# Altium footprint library as14120.PcbLib: 33 footprints (part 1 of 3)
Each footprint in its own frame and in the unit in brackets; x right, y up, seen from the top. Pads: shape width x height; smd on the part's side, far side on the other; paste and mask are expansions set on the pad; w line width, h text height; cw(c..) or ccw(c..) is an arc to the next point about the centre after c.
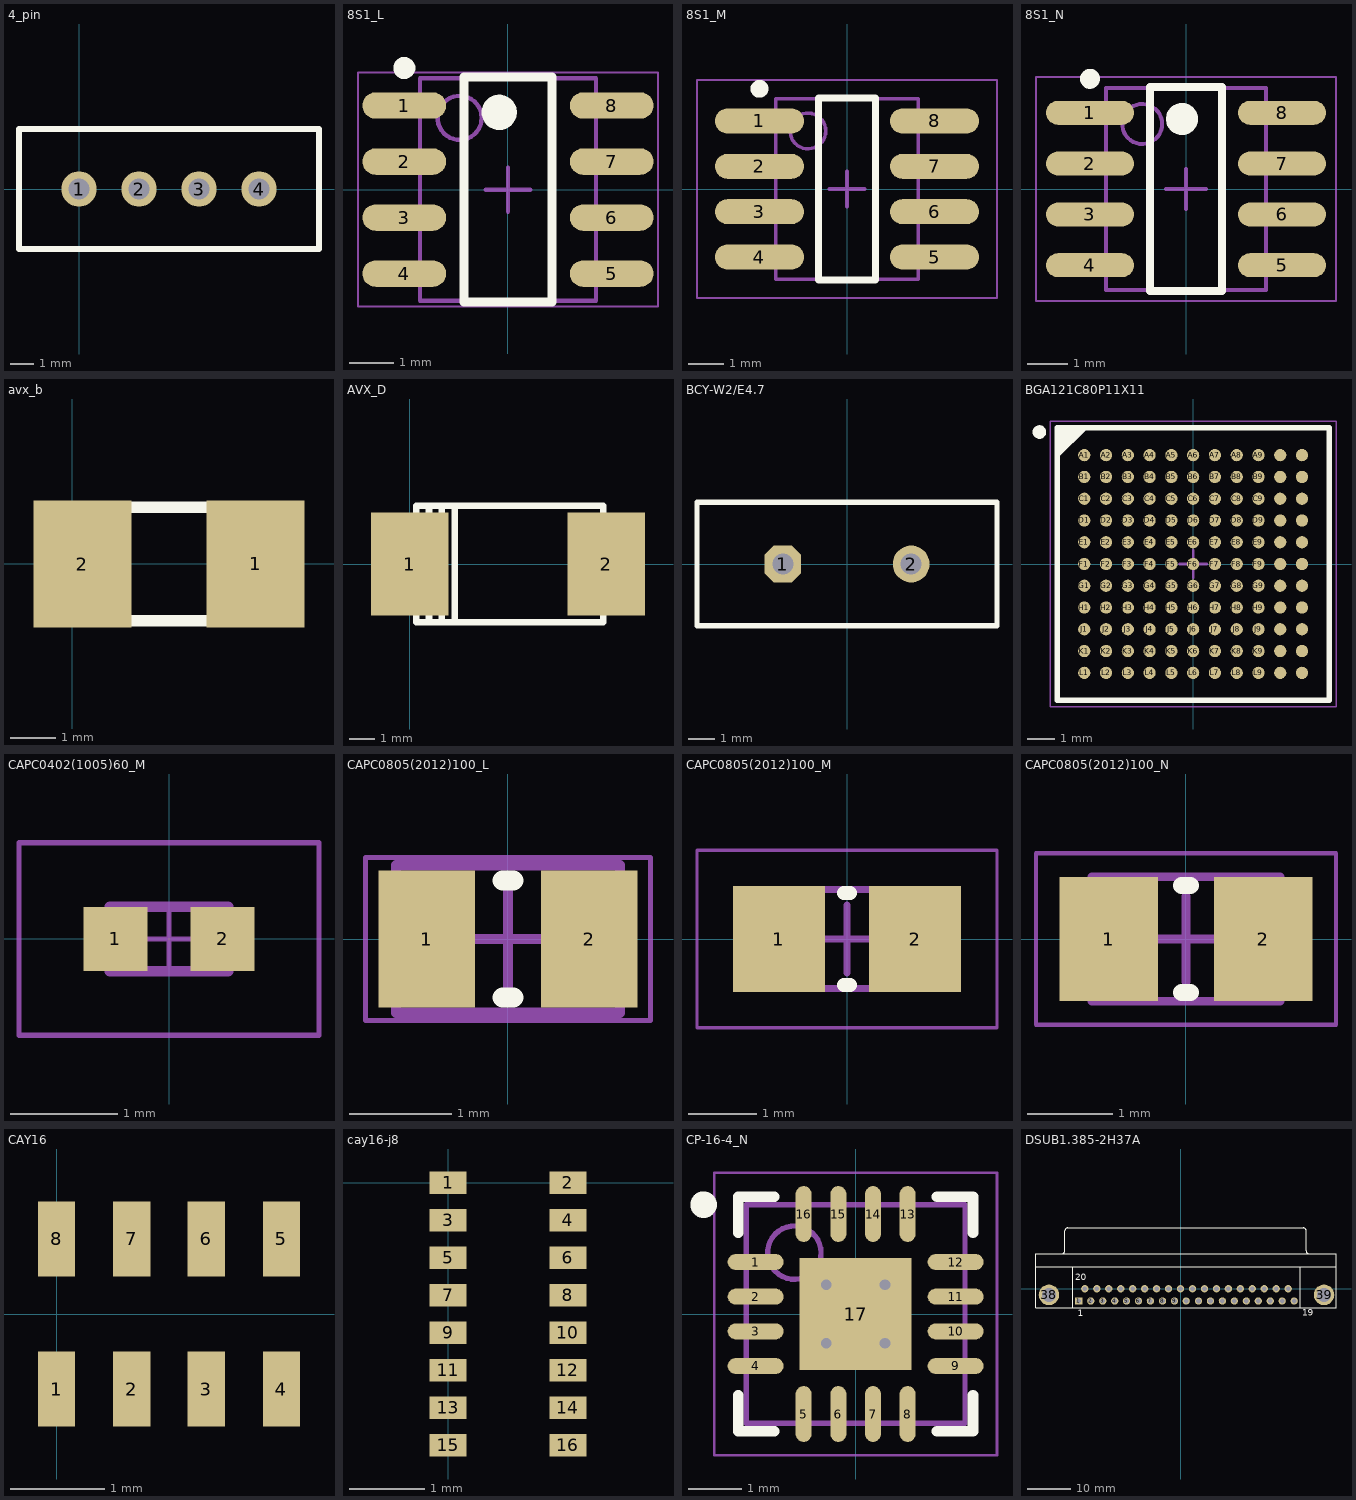
[diagram p0: the footprints below, top view; thin cyan lines are the x and y axes]

## 4_pin [mm]
height 10
pads (4):
  round 1.5 hole 0.9: 1(0,0) 2(2.54,0) 3(5.08,0) 4(7.62,0)
Top Overlay:
  lines w0.254: -2.54,-2.54 10.16,-2.54 10.16,2.54 -2.54,2.54 -2.54,-2.54

## 8S1_L [mm] "SOIC, 8-Leads, Body 4.9x3.9mm, Pitch 1.27mm, IPC High Density"
height 1.75
pads (8):
  oval 1.9x0.6 smd: 1(-2.35,1.905) 2(-2.35,0.635) 3(-2.35,-0.635) 4(-2.35,-1.905) 5(2.35,-1.905) 6(2.35,-0.635) 7(2.35,0.635) 8(2.35,1.905)
Top Overlay:
  circle w0.25: c-2.35,2.755 r0.125
  circle w0.4: c-0.2,1.75 r0.2
  lines w0.2: -1,-2.55 -1,2.55 1,2.55 1,-2.55 -1,-2.55
Mechanical 13:
  circle w0.1: c-1.095,1.625 r0.5
  lines w0.1: -1.995,-2.525 -1.995,2.525 1.995,2.525 1.995,-2.525 -1.995,-2.525
Mechanical 15:
  lines w0.05: -3.4,-2.65 -3.4,2.65 3.4,2.65 3.4,-2.65 -3.4,-2.65
  lines w0.1: -0.5,0 0.5,0 ; 0,-0.5 0,0.5
3D body: height 1.75, standoff 0.1, extent -1.995,-2.525 1.995,2.525

## 8S1_M [mm] "SOIC, 8-Leads, Body 4.9x3.9mm, Pitch 1.27mm, IPC Low Density"
height 1.75
pads (8):
  oval 2.5x0.7 smd: 1(-2.45,1.905) 2(-2.45,0.635) 3(-2.45,-0.635) 4(-2.45,-1.905) 5(2.45,-1.905) 6(2.45,-0.635) 7(2.45,0.635) 8(2.45,1.905)
Top Overlay:
  circle w0.25: c-2.45,2.805 r0.125
  lines w0.2: -0.8,-2.55 -0.8,2.55 0.8,2.55 0.8,-2.55 -0.8,-2.55
Mechanical 13:
  circle w0.1: c-1.095,1.625 r0.5
  lines w0.1: -1.995,-2.525 -1.995,2.525 1.995,2.525 1.995,-2.525 -1.995,-2.525
Mechanical 15:
  lines w0.05: -4.2,-3.05 -4.2,3.05 4.2,3.05 4.2,-3.05 -4.2,-3.05
  lines w0.1: -0.5,0 0.5,0 ; 0,-0.5 0,0.5
3D body: height 1.75, standoff 0.1, extent -1.995,-2.525 1.995,2.525

## 8S1_N [mm] "SOIC, 8-Leads, Body 4.9x3.9mm, Pitch 1.27mm, IPC Medium Density"
height 1.75
pads (8):
  oval 2.2x0.6 smd: 1(-2.4,1.905) 2(-2.4,0.635) 3(-2.4,-0.635) 4(-2.4,-1.905) 5(2.4,-1.905) 6(2.4,-0.635) 7(2.4,0.635) 8(2.4,1.905)
Top Overlay:
  circle w0.4: c-0.1,1.75 r0.2
  circle w0.25: c-2.4,2.755 r0.125
  lines w0.2: -0.9,-2.55 0.9,-2.55 0.9,2.55 -0.9,2.55 -0.9,-2.55
Mechanical 13:
  circle w0.1: c-1.095,1.625 r0.5
  lines w0.1: -1.995,-2.525 1.995,-2.525 1.995,2.525 -1.995,2.525 -1.995,-2.525
Mechanical 15:
  lines w0.05: -3.75,-2.8 3.75,-2.8 3.75,2.8 -3.75,2.8 -3.75,-2.8
  lines w0.1: -0.5,0 0.5,0 ; 0,-0.5 0,0.5
3D body: height 1.75, standoff 0.1, extent -1.995,-2.525 1.995,2.525

## avx_b [mil]
height 98.43
pads (2):
  rect 85x110 smd: 1(159.06,0) 2(9.06,0)
Top Overlay:
  lines w10: 127.95,-49.21 127.95,49.21 ; 147.64,-49.21 147.64,49.21 ; 9.84,-49.21 9.84,49.21 167.32,49.21 167.32,-49.21 9.84,-49.21
3D body: height 79.92, standoff 0, extent 15.75,-57.67 161.42,57.68

## AVX_D [mm]
height 3
pads (2):
  rect 3x4 smd: 1(0,0) 2(7.62,0)
Top Overlay:
  lines w0.254: 0.75,-2.25 0.75,2.25 ; 1.25,-2.25 1.25,2.25 ; 1.75,-2.25 1.75,2.25 ; 0.25,-2.25 0.25,2.25 7.5,2.25 7.5,-2.25 0.25,-2.25
3D body: height 3.1, standoff 0, extent 0.35,-2.15 7.65,2.15

## BCY-W2/E4.7 [mm] "Quartz Crystal, Thru-Hole; 2 Leads; Body 11.35 x 4.65 x 13.46 mm (LxWxH max)"
height 13.46
pads (2):
  oct 1.4x1.4 hole 0.8: 1(-2.44,0)
  round 1.4 hole 0.8: 2(2.44,0)
Top Overlay:
  lines w0.2: -5.7,-2.35 -5.7,2.35 5.7,2.35 5.7,-2.35 -5.7,-2.35

## BGA121C80P11X11 [mm] "BGA, 121-Leads, Body 10,00x10,00mmx1,20mm, Pitch 0,80mm"
height 1.2
pads (121):
  round 0.45 smd: A1(-4,4) A2(-3.2,4) A3(-2.4,4) A4(-1.6,4) A5(-0.8,4) A6(0,4) A7(0.8,4) A8(1.6,4) A9(2.4,4) A10(3.2,4) A11(4,4) B1(-4,3.2) B2(-3.2,3.2) B3(-2.4,3.2) B4(-1.6,3.2) B5(-0.8,3.2) B6(0,3.2) B7(0.8,3.2) B8(1.6,3.2) B9(2.4,3.2) B10(3.2,3.2) B11(4,3.2) C1(-4,2.4) C2(-3.2,2.4) C3(-2.4,2.4) C4(-1.6,2.4) C5(-0.8,2.4) C6(0,2.4) C7(0.8,2.4) C8(1.6,2.4) C9(2.4,2.4) C10(3.2,2.4) C11(4,2.4) D1(-4,1.6) D2(-3.2,1.6) D3(-2.4,1.6) D4(-1.6,1.6) D5(-0.8,1.6) D6(0,1.6) D7(0.8,1.6) D8(1.6,1.6) D9(2.4,1.6) D10(3.2,1.6) D11(4,1.6) E1(-4,0.8) E2(-3.2,0.8) E3(-2.4,0.8) E4(-1.6,0.8) E5(-0.8,0.8) E6(0,0.8) E7(0.8,0.8) E8(1.6,0.8) E9(2.4,0.8) E10(3.2,0.8) E11(4,0.8) F1(-4,0) F2(-3.2,0) F3(-2.4,0) F4(-1.6,0) F5(-0.8,0) F6(0,0) F7(0.8,0) F8(1.6,0) F9(2.4,0) F10(3.2,0) F11(4,0) G1(-4,-0.8) G2(-3.2,-0.8) G3(-2.4,-0.8) G4(-1.6,-0.8) G5(-0.8,-0.8) G6(0,-0.8) G7(0.8,-0.8) G8(1.6,-0.8) G9(2.4,-0.8) G10(3.2,-0.8) G11(4,-0.8) H1(-4,-1.6) H2(-3.2,-1.6) H3(-2.4,-1.6) H4(-1.6,-1.6) H5(-0.8,-1.6) H6(0,-1.6) H7(0.8,-1.6) H8(1.6,-1.6) H9(2.4,-1.6) H10(3.2,-1.6) H11(4,-1.6) J1(-4,-2.4) J2(-3.2,-2.4) J3(-2.4,-2.4) J4(-1.6,-2.4) J5(-0.8,-2.4) J6(0,-2.4) J7(0.8,-2.4) J8(1.6,-2.4) J9(2.4,-2.4) J10(3.2,-2.4) J11(4,-2.4) K1(-4,-3.2) K2(-3.2,-3.2) K3(-2.4,-3.2) K4(-1.6,-3.2) K5(-0.8,-3.2) K6(0,-3.2) K7(0.8,-3.2) K8(1.6,-3.2) K9(2.4,-3.2) K10(3.2,-3.2) K11(4,-3.2) L1(-4,-4) L2(-3.2,-4) L3(-2.4,-4) L4(-1.6,-4) L5(-0.8,-4) L6(0,-4) L7(0.8,-4) L8(1.6,-4) L9(2.4,-4) L10(3.2,-4) L11(4,-4)
Top Overlay:
  circle w0.25: c-5.65,4.85 r0.125
  region: -4,5 -5,4 -5,5
  lines w0.2: -5,4 -4,5 ; -5,-5 5,-5 5,5 -5,5 -5,-5
Mechanical 13:
  lines w0.1: -5,-5 5,-5 5,5 -5,5 -5,-5
Mechanical 15:
  lines w0.05: -5.25,-5.25 5.25,-5.25 5.25,5.25 -5.25,5.25 -5.25,-5.25
  lines w0.1: -0.5,0 0.5,0 ; 0,-0.5 0,0.5
3D body: height 1.2, standoff 0.13, extent -5,-5 5,5

## CAPC0402(1005)60_M [mm] "Chip Capacitor, Body 1.0x0.5mm, Height 0.6mm, IPC Low Density"
height 0.6
pads (2):
  rect 0.6x0.6 smd: 1(-0.5,0) 2(0.5,0)
Mechanical 13:
  lines w0.1: -0.55,-0.3 -0.55,0.3 0.55,0.3 0.55,-0.3 -0.55,-0.3
Mechanical 15:
  lines w0.05: -0.3,0 0.3,0 ; 0,-0.3 0,0.3 ; -1.4,-0.9 -1.4,0.9 1.4,0.9 1.4,-0.9 -1.4,-0.9
3D body: height 0.2, standoff 0, extent -0.5,-0.3 0.5,0.3

## CAPC0805(2012)100_L [mm] "Chip Capacitor, Body 2.0x1.2mm, Height 1.0mm, IPC High Density"
height 1
pads (2):
  rect 0.95x1.35 smd: 1(-0.8,0) 2(0.8,0)
Top Overlay:
  lines w0.2: -0.05,-0.575 0.05,-0.575 ; -0.05,0.575 0.05,0.575
Mechanical 13:
  lines w0.1: -1.1,-0.725 1.1,-0.725 1.1,0.725 -1.1,0.725 -1.1,-0.725
Mechanical 15:
  lines w0.05: -1.4,-0.8 1.4,-0.8 1.4,0.8 -1.4,0.8 -1.4,-0.8
  lines w0.1: -0.5,0 0.5,0 ; 0,-0.5 0,0.5
3D body: height 0.78, standoff 0, extent -1,-0.625 1,0.625

## CAPC0805(2012)100_M [mm] "Chip Capacitor, Body 2.0x1.2mm, Height 1.0mm, IPC Low Density"
height 1
pads (2):
  rect 1.35x1.55 smd: 1(-1,0) 2(1,0)
Top Overlay:
  lines w0.2: -0.05,-0.675 0.05,-0.675 ; -0.05,0.675 0.05,0.675
Mechanical 13:
  lines w0.1: -1.1,-0.725 1.1,-0.725 1.1,0.725 -1.1,0.725 -1.1,-0.725
Mechanical 15:
  lines w0.05: -2.2,-1.3 2.2,-1.3 2.2,1.3 -2.2,1.3 -2.2,-1.3
  lines w0.1: -0.5,0 0.5,0 ; 0,-0.5 0,0.5
3D body: height 0.78, standoff 0, extent -1,-0.625 1,0.625

## CAPC0805(2012)100_N [mm] "Chip Capacitor, Body 2.0x1.2mm, Height 1.0mm, IPC Medium Density"
height 1
pads (2):
  rect 1.15x1.45 smd: 1(-0.9,0) 2(0.9,0)
Top Overlay:
  lines w0.2: -0.05,-0.625 0.05,-0.625 ; -0.05,0.625 0.05,0.625
Mechanical 13:
  lines w0.1: -1.1,-0.725 -1.1,0.725 1.1,0.725 1.1,-0.725 -1.1,-0.725
Mechanical 15:
  lines w0.05: -1.75,-1 -1.75,1 1.75,1 1.75,-1 -1.75,-1
  lines w0.1: -0.5,0 0.5,0 ; 0,-0.5 0,0.5
3D body: height 0.78, standoff 0, extent -1,-0.625 1,0.625

## CAY16 [mm]
height 1
pads (8):
  rect 0.4x0.8 smd: 1(0,-0.8) 2(0.8,-0.8) 3(1.6,-0.8) 4(2.4,-0.8) 5(2.4,0.8) 6(1.6,0.8) 7(0.8,0.8) 8(0,0.8)
3D body: height 0.5, standoff 0, extent -0.4,-0.8 2.8,0.8

## cay16-j8 [mm]
pads (16):
  rect 0.5x0.3 smd: 1(0,0) 2(1.6,0) 3(0,-0.5) 4(1.6,-0.5) 5(0,-1) 6(1.6,-1) 7(0,-1.5) 8(1.6,-1.5) 9(0,-2) 10(1.6,-2) 11(0,-2.5) 12(1.6,-2.5) 13(0,-3) 14(1.6,-3) 15(0,-3.5) 16(1.6,-3.5)

## CP-16-4_N [mm] "QFN, 16-Leads, Body 4x4mm, Pitch 0.65mm, Thermal Pad 2.1x2.1mm, IPC Medium Density"
height 1
pads (17):
  oval 1.05x0.3 smd: 1(-1.875,0.975) 2(-1.875,0.325) 3(-1.875,-0.325) 4(-1.875,-0.975) 9(1.875,-0.975) 10(1.875,-0.325) 11(1.875,0.325) 12(1.875,0.975)
  oval 0.3x1.05 smd: 5(-0.975,-1.875) 6(-0.325,-1.875) 7(0.325,-1.875) 8(0.975,-1.875) 13(0.975,1.875) 14(0.325,1.875) 15(-0.325,1.875) 16(-0.975,1.875)
  rect 2.1x2.1 smd: 17(0,0)
via 0.55,-0.55 diameter 0.5 hole 0.2
via -0.55,-0.55 diameter 0.5 hole 0.2
via 0.55,0.55 diameter 0.5 hole 0.2
via -0.55,0.55 diameter 0.5 hole 0.2
Top Overlay:
  circle w0.25: c-2.85,2.05 r0.125
  lines w0.2: -2.2,-1.525 -2.2,-2.2 -1.525,-2.2 ; -2.2,1.525 -2.2,2.2 -1.525,2.2 ; 1.525,-2.2 2.2,-2.2 2.2,-1.525 ; 1.525,2.2 2.2,2.2 2.2,1.525
Mechanical 13:
  circle w0.1: c-1.15,1.15 r0.5
  lines w0.1: -2.05,-2.05 2.05,-2.05 2.05,2.05 -2.05,2.05 -2.05,-2.05
Mechanical 15:
  lines w0.05: -2.65,-2.65 2.65,-2.65 2.65,2.65 -2.65,2.65 -2.65,-2.65
  lines w0.1: -0.5,0 0.5,0 ; 0,-0.5 0,0.5
3D body: height 1, standoff 0, extent -2.05,-2.05 2.05,2.05

## DSUB1.385-2H37A [mm] "Connector; D Subminiature; 25 Position; Right Angle; Pitch 1.385 mm"
height 12.93
pads (39):
  rect 1.69x1.69 hole 1.09: 1(-23.545,-2.84)
  round 1.69 hole 1.09: 2(-20.784,-2.84) 3(-18.005,-2.84) 4(-15.235,-2.84) 5(-12.501,-2.84) 6(-9.74,-2.84) 7(-6.979,-2.84) 8(-4.155,-2.84) 9(-1.385,-2.84) 10(1.304,-2.84) 11(4.155,-2.84) 12(6.925,-2.84) 13(9.695,-2.84) 14(12.465,-2.84) 15(15.235,-2.84) 16(18.005,-2.84) 17(20.775,-2.84) 18(23.545,-2.84) 19(26.315,-2.84) 20(-22.16,0) 21(-19.39,0) 22(-16.62,0) 23(-13.85,0) 24(-11.08,0) 25(-8.31,0) 26(-5.54,0) 27(-2.77,0) 28(0,0) 29(2.77,0) 30(5.54,0) 31(8.31,0) 32(11.08,0) 33(13.85,0) 34(16.62,0) 35(19.39,0) 36(22.16,0) 37(24.93,0)
  round 4.76 hole 3.26: 38(-30.47,-1.42) 39(33.24,-1.42)
Top Overlay:
  lines w0.2: -33.475,5.08 27.695,5.1 27.695,-4.42 ; -27.52,8.085 ccw(c-27.52,8.78) -26.825,8.78 -26.825,13.38 ; -26.82,13.385 cw(c-26.125,13.385) -26.125,14.08 12.39,14.08 ; -24.925,-4.42 -24.925,5.08 ; 28.405,14.095 cw(c28.405,13.4) 29.1,13.4 ; 29.1,8.8 ccw(c29.795,8.8) 29.795,8.105 ; -33.475,-4.42 36.01,-4.42 36.01,8.08 -33.475,8.08 -33.475,-4.42
  lines w0.254: 12.39,14.08 28.42,14.08 ; 27.695,5.1 35.9,5.1 ; 29.1,8.8 29.1,13.4
  text "1" at -23.795,-6.395 h1.5
  text "19" at 28.2,-6.2 h1.5
  text "20" at -24.4,2 h1.5
Bottom Overlay:
  lines w0.254: 15.7,-25.8 15.7,-11.1